# Altium footprint library RC.pcblib: 10 footprints
Each footprint in its own frame and in the unit in brackets; x right, y up, seen from the top. Pads: shape width x height; smd on the part's side, far side on the other; paste and mask are expansions set on the pad; w line width, h text height; cw(c..) or ccw(c..) is an arc to the next point about the centre after c.
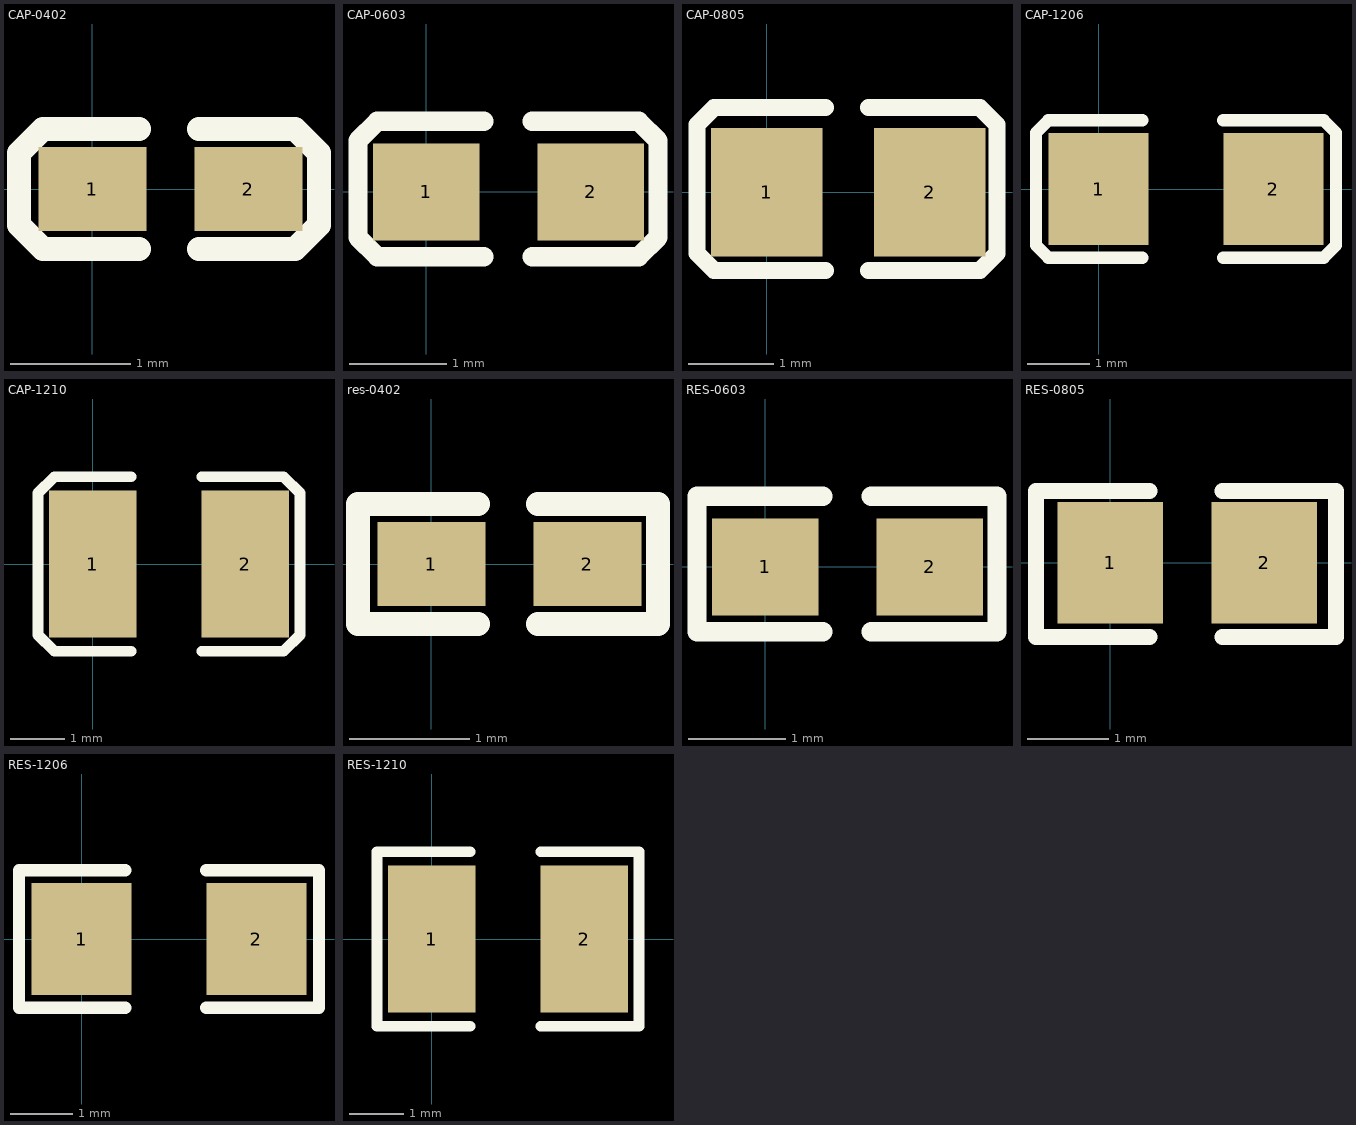
[diagram p0: the footprints below, top view; thin cyan lines are the x and y axes]

## CAP-0402 [mm]
height 2
pads (2):
  rect 0.9x0.7 smd: 1(0,0) 2(1.3,0)
Top Overlay:
  lines w0.2: -0.211,0.501 -0.411,0.501 ; 0.389,-0.499 -0.411,-0.499 -0.611,-0.299 -0.611,0.301 -0.411,0.501 ; 0.389,0.501 -0.411,0.501 ; 0.889,-0.499 1.689,-0.499 1.889,-0.299 1.889,0.301 1.689,0.501 0.889,0.501

## CAP-0603 [mm]
height 2
pads (2):
  rect 1.1x1 smd: 1(0,0) 2(1.7,0)
Top Overlay:
  lines w0.2: -0.406,-0.67 -0.506,-0.67 ; 0.594,-0.67 -0.506,-0.67 ; 0.594,0.73 -0.406,0.73 -0.506,0.73 -0.706,0.53 -0.706,-0.47 ; 1.094,-0.67 2.194,-0.67 2.394,-0.47 2.394,0.53 2.194,0.73 1.094,0.73 ; -0.706,-0.47 -0.506,-0.67 ; -0.706,-0.47 -0.506,-0.67

## CAP-0805 [mm]
height 2
pads (2):
  rect 1.3x1.5 smd: 1(0,0) 2(1.9,0)
Top Overlay:
  lines w0.2: 0.684,-0.914 -0.616,-0.914 -0.816,-0.714 -0.816,0.786 -0.616,0.986 0.684,0.986 ; 1.184,-0.914 2.484,-0.914 2.684,-0.714 2.684,0.786 2.484,0.986 1.184,0.986

## CAP-1206 [mm]
height 2
pads (2):
  rect 1.6x1.8 smd: 1(0,0) 2(2.8,0)
Top Overlay:
  lines w0.2: 0.7,-1.1 -0.8,-1.1 -1,-0.9 -1,0.9 -0.8,1.1 ; 2,-1.1 3.6,-1.1 3.8,-0.9 3.8,0.9 3.6,1.1 2,1.1 ; -0.8,1.1 0.7,1.1 -0.8,1.1

## CAP-1210 [mm]
height 2
pads (2):
  rect 1.6x2.7 smd: 1(0,0) 2(2.8,0)
Top Overlay:
  lines w0.2: 0.7,-1.6 -0.7,-1.6 -1,-1.3 -1,1.3 -0.7,1.6 0.7,1.6 ; 2,-1.6 3.5,-1.6 3.8,-1.3 3.8,1.3 3.5,1.6 2,1.6

## res-0402 [mm] "1/16W"
height 2
pads (2):
  rect 0.9x0.7 smd: 1(0,0) 2(1.3,0)
Top Overlay:
  lines w0.2: 0.389,-0.499 -0.611,-0.499 -0.611,0.501 0.389,0.501 ; 0.889,-0.499 1.889,-0.499 1.889,0.501 0.889,0.501

## RES-0603 [mm] "1/10W"
height 2
pads (2):
  rect 1.1x1 smd: 1(0,0) 2(1.7,0)
Top Overlay:
  lines w0.2: 0.594,-0.67 -0.706,-0.67 -0.706,0.73 -0.606,0.73 0.594,0.73 ; 1.094,-0.67 2.394,-0.67 2.394,0.73 1.094,0.73

## RES-0805 [mm] "1/8W"
height 2
pads (2):
  rect 1.3x1.5 smd: 1(0,0) 2(1.9,0)
Top Overlay:
  lines w0.2: 0.484,-0.914 -0.916,-0.914 -0.916,0.886 -0.716,0.886 0.484,0.886 ; 1.384,-0.914 2.784,-0.914 2.784,0.886 2.584,0.886 1.384,0.886

## RES-1206 [mm] "1/4W"
height 2
pads (2):
  rect 1.6x1.8 smd: 1(0,0) 2(2.8,0)
Top Overlay:
  lines w0.2: 0.7,-1.1 -1,-1.1 -1,1.1 -0.8,1.1 0.7,1.1 ; 2,-1.1 3.8,-1.1 3.8,1.1 3.7,1.1 2,1.1

## RES-1210 [mm] "1/3W"
height 0.55
pads (2):
  rect 1.6x2.7 smd: 1(0,0) 2(2.8,0)
Top Overlay:
  lines w0.2: 0.7,-1.6 -1,-1.6 -1,1.6 -0.8,1.6 0.7,1.6 ; 2,-1.6 3.8,-1.6 3.8,1.6 3.7,1.6 2,1.6